# Altium schematic symbol library Display_Character.SchLib: 128 symbols (part 2 of 2)
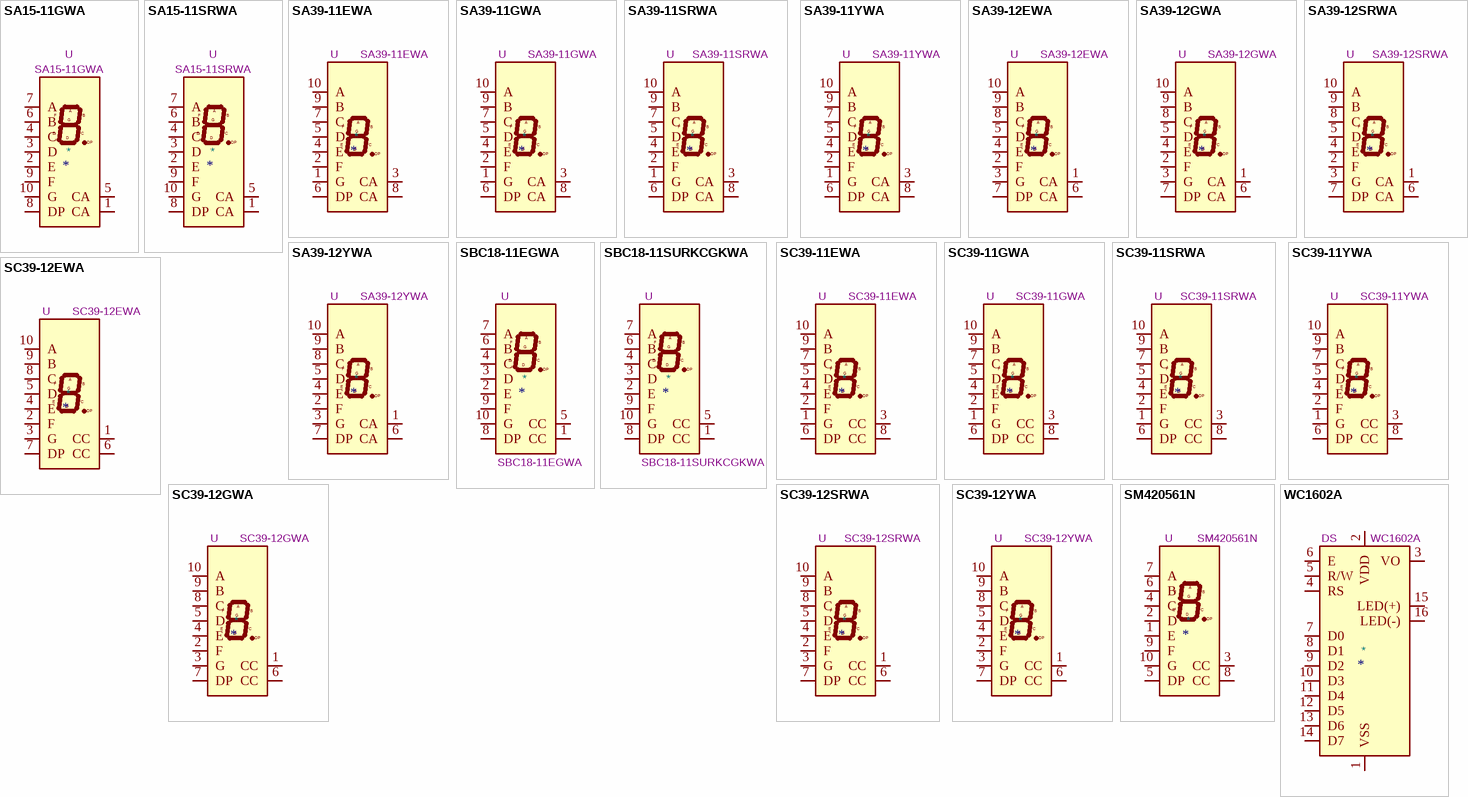
[diagram p4: symbols SA15-11GWA to WC1602A]

## SBC18-11EGWA
designator *  value SBC18-11EGWA  Reference: U
ki_keywords: display LED 7-segment; ki_description: Single digit 7 segment hyper red and green LED display, common cathode; ki_fp_filters: *SBC18*11*; Footprint: Display_7Segment:SBC18-11SURKCGKWA; Datasheet: http://www.kingbrightusa.com/images/catalog/SPEC/SBC18-11EGWA.pdf
pins: 1 CC, 2 E, 3 D, 4 C, 5 CC, 6 B, 7 A, 8 DP, 9 F, 10 G

## SBC18-11SURKCGKWA
designator *  value SBC18-11SURKCGKWA  Reference: U
ki_keywords: display LED 7-segment; ki_description: Single digit 7 segment hyper red and green LED display, common cathode; ki_fp_filters: *SBC18*11*; Footprint: Display_7Segment:SBC18-11SURKCGKWA; Datasheet: http://www.kingbright.com/attachments/file/psearch/000/00/00/SBC18-11SURKCGKWA(Ver.6A).pdf
pins: 1 CC, 2 E, 3 D, 4 C, 5 CC, 6 B, 7 A, 8 DP, 9 F, 10 G

## SC39-11EWA
designator *  value SC39-11EWA  Reference: U
ki_keywords: display LED 7-segment; ki_description: Single digit 7 segment display, high efficiency red, common cathode; ki_fp_filters: S?39?1*; Footprint: Display_7Segment:Sx39-1xxxxx; Datasheet: http://www.kingbrightusa.com/images/catalog/SPEC/sc39-11ewa.pdf
pins: 1 G, 2 F, 3 CC, 4 E, 5 D, 6 DP, 7 C, 8 CC, 9 B, 10 A

## SC39-11GWA
designator *  value SC39-11GWA  Reference: U
ki_keywords: display LED 7-segment; ki_description: Single digit 7 segment display, green, common cathode; ki_fp_filters: S?39?1*; Footprint: Display_7Segment:Sx39-1xxxxx; Datasheet: http://www.kingbrightusa.com/images/catalog/SPEC/sc39-11gwa.pdf
pins: 1 G, 2 F, 3 CC, 4 E, 5 D, 6 DP, 7 C, 8 CC, 9 B, 10 A

## SC39-11SRWA
designator *  value SC39-11SRWA  Reference: U
ki_keywords: display LED 7-segment; ki_description: Single digit 7 segment display, super bright red, common cathode; ki_fp_filters: S?39?1*; Footprint: Display_7Segment:Sx39-1xxxxx; Datasheet: http://www.kingbrightusa.com/images/catalog/SPEC/sc39-11srwa.pdf
pins: 1 G, 2 F, 3 CC, 4 E, 5 D, 6 DP, 7 C, 8 CC, 9 B, 10 A

## SC39-11YWA
designator *  value SC39-11YWA  Reference: U
ki_keywords: display LED 7-segment; ki_description: Single digit 7 segment display, yellow, common cathode; ki_fp_filters: S?39?1*; Footprint: Display_7Segment:Sx39-1xxxxx; Datasheet: http://www.kingbrightusa.com/images/catalog/SPEC/sc39-11ywa.pdf
pins: 1 G, 2 F, 3 CC, 4 E, 5 D, 6 DP, 7 C, 8 CC, 9 B, 10 A

## SC39-12EWA
designator *  value SC39-12EWA  Reference: U
ki_keywords: display LED 7-segment; ki_description: Single digit 7 segment display, high efficiency red, common cathode; ki_fp_filters: S?39?1*; Footprint: Display_7Segment:Sx39-1xxxxx; Datasheet: http://www.kingbrightusa.com/images/catalog/SPEC/sc39-12ewa.pdf
pins: 1 CC, 2 F, 3 G, 4 E, 5 D, 6 CC, 7 DP, 8 C, 9 B, 10 A

## SC39-12GWA
designator *  value SC39-12GWA  Reference: U
ki_keywords: display LED 7-segment; ki_description: Single digit 7 segment display, green, common cathode; ki_fp_filters: S?39?1*; Footprint: Display_7Segment:Sx39-1xxxxx; Datasheet: http://www.kingbrightusa.com/images/catalog/SPEC/sc39-12gwa.pdf
pins: 1 CC, 2 F, 3 G, 4 E, 5 D, 6 CC, 7 DP, 8 C, 9 B, 10 A

## SC39-12SRWA
designator *  value SC39-12SRWA  Reference: U
ki_keywords: display LED 7-segment; ki_description: Single digit 7 segment display, super bright red, common cathode; ki_fp_filters: S?39?1*; Footprint: Display_7Segment:Sx39-1xxxxx; Datasheet: http://www.kingbrightusa.com/images/catalog/SPEC/sc39-12srwa.pdf
pins: 1 CC, 2 F, 3 G, 4 E, 5 D, 6 CC, 7 DP, 8 C, 9 B, 10 A

## SC39-12YWA
designator *  value SC39-12YWA  Reference: U
ki_keywords: display LED 7-segment; ki_description: Single digit 7 segment display, yellow, common cathode; ki_fp_filters: S?39?1*; Footprint: Display_7Segment:Sx39-1xxxxx; Datasheet: http://www.kingbrightusa.com/images/catalog/SPEC/sc39-12ywa.pdf
pins: 1 CC, 2 F, 3 G, 4 E, 5 D, 6 CC, 7 DP, 8 C, 9 B, 10 A

## SM420561N
designator *  value SM420561N  Reference: U
ki_keywords: display LED 7-segment; ki_description: One digit 7 segment blue LED, common cathode; ki_fp_filters: 7SegmentLED?LTS6760?LTS6780*; Footprint: Display_7Segment:7SegmentLED_LTS6760_LTS6780; Datasheet: https://datasheet.lcsc.com/szlcsc/Wuxi-ARK-Tech-Elec-SM420561N_C141367.pdf
pins: 1 E, 2 D, 3 CC, 4 C, 5 DP, 6 B, 7 A, 8 CC, 9 F, 10 G

## WC1602A
designator *  value WC1602A  Reference: DS
ki_keywords: display LCD dot-matrix; ki_description: LCD 16x2 Alphanumeric , 8 bit parallel bus, 5V VDD; ki_fp_filters: *WC*1602A*; Footprint: Display:WC1602A; Datasheet: http://www.wincomlcd.com/pdf/WC1602A-SFYLYHTC06.pdf
pins: 1 VSS, 2 VDD, 3 VO, 4 RS, 5 R/W, 6 E, 7 D0, 8 D1, 9 D2, 10 D3, 11 D4, 12 D5, 13 D6, 14 D7, 15 LED(+), 16 LED(-)